# EAGLE library part CTC-6PDT (library SPCoast)
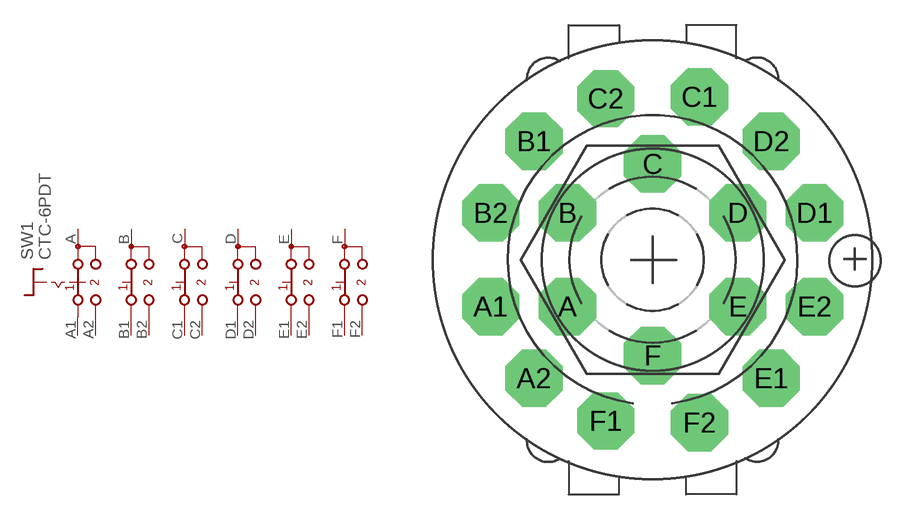
[diagram p43: symbol with the pads of CTC-6PDT-ROTARY; footprint CTC-6PDT-ROTARY]

Designator prefix SW1

## CTC-6PDT  [CTC-6PDT-ROTARY]
A  A  pas
A1  A1  pas
A2  A2  pas
B  B  pas
B1  B1  pas
B2  B2  pas
C  C  pas
C1  C1  pas
C2  C2  pas
D  D  pas
D1  D1  pas
D2  D2  pas
E  E  pas
E1  E1  pas
E2  E2  pas
F  F  pas
F1  F1  pas
F2  F2  pas

## Footprint CTC-6PDT-ROTARY (pad centres in mm)
drill 2.4 octagon: A -5.08,-2.794; A1 -9.652,-2.794; A2 -7.072,-7.072; B -5.08,2.794; B1 -7.072,7.072; B2 -9.652,2.794; C 0,5.715; C1 2.794,9.717; C2 -2.794,9.617; D 5.08,2.794; D1 9.652,2.794; D2 7.072,7.072; E 5.08,-2.794; E1 7.072,-7.072; E2 9.652,-2.794; F 0,-5.715; F1 -2.794,-9.617; F2 2.794,-9.717